# EAGLE library part ATMEGA328P_VQFN (library SparkFun-IC-Microcontroller)
Atmel 328P QFN part not in catalog
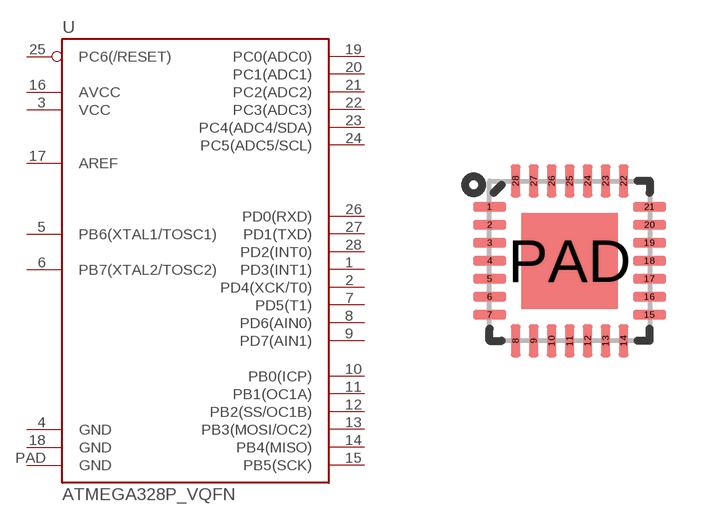
[diagram p17: symbol with the pads of VQFN-28; footprint VQFN-28]

Designator prefix U

## ATMEGA328P_VQFNVQFN  [VQFN-28]
1  PD3(INT1)
2  PD4(XCK/T0)
3  VCC
4  GND
5  PB6(XTAL1/TOSC1)
6  PB7(XTAL2/TOSC2)
7  PD5(T1)
8  PD6(AIN0)
9  PD7(AIN1)
10  PB0(ICP)
11  PB1(OC1A)
12  PB2(SS/OC1B)
13  PB3(MOSI/OC2)
14  PB4(MISO)
15  PB5(SCK)
16  AVCC
17  AREF
18  GND
19  PC0(ADC0)
20  PC1(ADC1)
21  PC2(ADC2)
22  PC3(ADC3)
23  PC4(ADC4/SDA)
24  PC5(ADC5/SCL)
25  PC6(/RESET)
26  PD0(RXD)
27  PD1(TXD)
28  PD2(INT0)
PAD  GND

## Footprint VQFN-28 (pad centres in mm)
smd 0.82 x 0.24: 1 -2,1.35; 2 -2,0.9; 3 -2,0.45; 4 -2,0; 5 -2,-0.45; 6 -2,-0.9; 7 -2,-1.35; 15 2,-1.35; 16 2,-0.9; 17 2,-0.45; 18 2,0; 19 2,0.45; 20 2,0.9; 21 2,1.35
smd 0.24 x 0.82: 8 -1.35,-2; 9 -0.9,-2; 10 -0.45,-2; 11 0,-2; 12 0.45,-2; 13 0.9,-2; 14 1.35,-2; 22 1.35,2; 23 0.9,2; 24 0.45,2; 25 0,2; 26 -0.45,2; 27 -0.9,2; 28 -1.35,2
smd 2.4 x 2.4: PAD 0,0